# EAGLE library part L293D (library myLib)
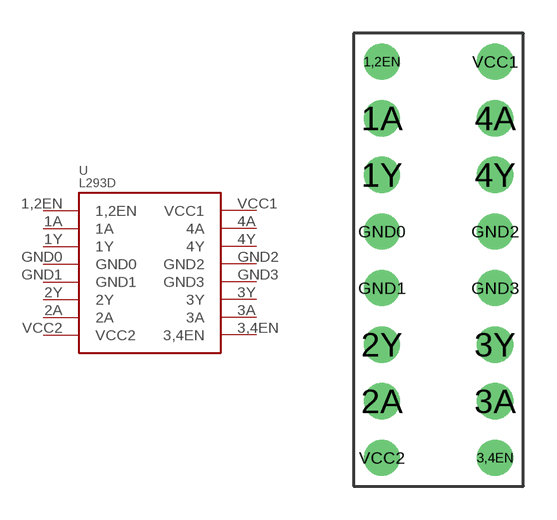
[diagram p1: symbol with the pads of L293D; footprint L293D]

Designator prefix -

## L293D  [L293D]
1,2EN  1,2EN
1A  1A
1Y  1Y
2A  2A
2Y  2Y
3,4EN  3,4EN
3A  3A
3Y  3Y
4A  4A
4Y  4Y
GND0  GND0
GND1  GND1
GND2  GND2
GND3  GND3
VCC1  VCC1
VCC2  VCC2

## Footprint L293D (pad centres in mm)
drill 0.813 pad 1.626: 1,2EN 1.27,-1.27; 1A 1.27,-3.81; 1Y 1.27,-6.35; 2A 1.27,-16.51; 2Y 1.27,-13.97; 3,4EN 6.35,-19.05; 3A 6.35,-16.51; 3Y 6.35,-13.97; 4A 6.35,-3.81; 4Y 6.35,-6.35; GND0 1.27,-8.89; GND1 1.27,-11.43; GND2 6.35,-8.89; GND3 6.35,-11.43; VCC1 6.35,-1.27; VCC2 1.27,-19.05